# Altium schematic symbol library PinHeader.SchLib: 1 symbol
Pins are listed as number, name and electrical type; pins without a type are passive.

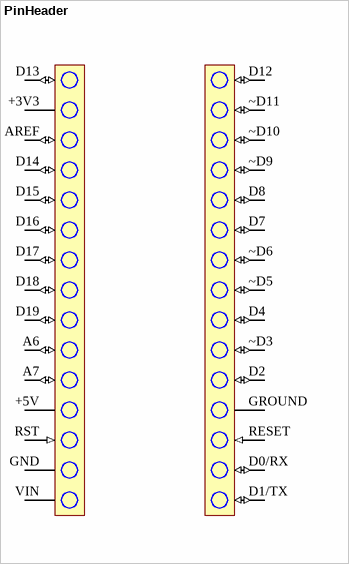
[diagram p0: symbol PinHeader]

## PinHeader
designator U?
footprint PCBComponent_1
pins: +3V3 2 (power), +5V 11 (power), A6 9 (io), A7 10 (io), AREF (io), D0/RX 29 (io), D1/TX 30 (io), D2 26 (io), D4 24 (io), D7 21 (io), D8 20 (io), D12 16 (io), D13 (io), D14 3 (io), D15 4 (io), D16 5 (io), D17 6 (io), D18 7 (io), D19 8 (io), GND 13 (power), GROUND 27 (power), RESET 28 (in), RST 12 (in), VIN 14 (power), ~D3 25 (io), ~D5 23 (io), ~D6 22 (io), ~D9 19 (io), ~D10 18 (io), ~D11 17 (io)